# EAGLE library part 686106148922 (library Eagle_FPC_CONNECTOR_AND_FFC_CAB (rev18c))
WR-FPC 1mm SMT Horiz. Bot. Contact Hinge type WR-FPC 1mm 06 pins Hinge type SMT Horizontal Bottom Contact ;=>Code : Con_FPC_ZIF_1.00_6861xx148922_686106148922 <http://katalog.we-online.de/media/images/eican/Con_FPC_ZIF_1.00_686110148922_pf2.jpg> Details see: http://katalog.we-online.de/em/datasheet/6861xx148922.pdf Created 2014-10-08, Karrer Zheng 2014 (C) Wurth Elektronik
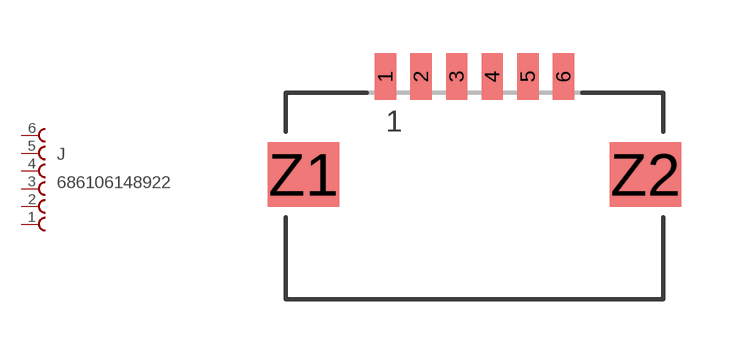
[diagram p90: symbol with the pads of 686106148922; footprint 686106148922]

Designator prefix J

## 686106148922  [686106148922]
1  6  pas
2  5  pas
3  4  pas
4  3  pas
5  2  pas
6  1  pas

## Footprint 686106148922 (pad centres in mm)
WR-FPC 1mm SMT Horiz. Bot. Contact Hinge type WR-FPC 1mm 06pins Hinge type SMT Horizontal Bottom Contact
smd 0.6 x 1.3: 1 -2.5,2.75; 2 -1.5,2.75; 3 -0.5,2.75; 4 0.5,2.75; 5 1.5,2.75; 6 2.5,2.75
smd 2 x 1.8: Z1 -4.8,0; Z2 4.8,0